# Altium schematic symbol library SAW6_1_4.Schlib: 1 symbol
Pins are listed as number, name and electrical type; pins without a type are passive.

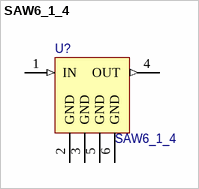
[diagram p0: symbol SAW6_1_4]

## SAW6_1_4
designator U?
pins: 1 IN (in), 2 GND (power), 3 GND (power), 4 OUT (out), 5 GND (power), 6 GND (power)